# Altium integrated library Resistors.IntLib: 4954 symbols (part 9 of 32)
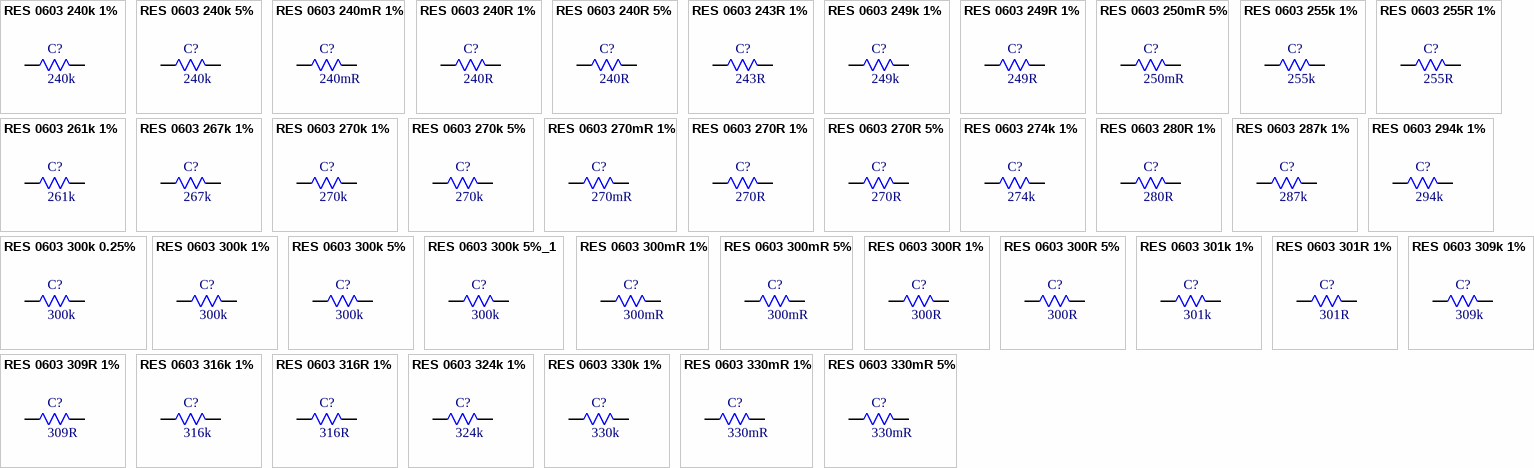
[diagram p131: symbols RES 0603 240k 1% to RES 0603 330mR 5%]

## RES 0603 316R 1%
designator C?, comment 316R
100mW 316R 75V Thick Film Resistor 1% 100ppm/â„ƒ 0603 Chip Resistor - Surface Mount RoHS; Manufacturer: FOJAN; Manufacturer Part Number: FRC0603F3160TS; Supplier: LCSC; Supplier Part Number: C7467419; Resistance: 316R; Tolerance: 1%; Voltage Rating: 75V; Power: 100mW
footprint RES SMD 0603
pins: 1, 2

## RES 0603 324k 1%
designator C?, comment 324k
324kR 1% 100mW 0603 Thick Film Resistor; Manufacturer: FOJAN; Manufacturer Part Number: FRC0603F3243TS; Voltage Rating: 75V; Supplier: LCSC; Supplier Part Number: C5713284; Resistance: 324k; Tolerance: 1%; Power: 100mW
footprint RES SMD 0603
pins: 1, 2

## RES 0603 330k 1%
designator C?, comment 330k
330kR 1% 100mW 0603 Thick Film Resistor; Manufacturer: FOJAN; Manufacturer Part Number: FRC0603F3303TS; Voltage Rating: 75V; Supplier: LCSC; Supplier Part Number: C2907027; Resistance: 330k; Tolerance: 1%; Power: 100mW
footprint RES SMD 0603
pins: 1, 2

## RES 0603 330mR 1%
designator C?, comment 330mR
330mR 1% 100mW 0603 Thick Film Resistor; Manufacturer: FOJAN; Manufacturer Part Number: FRL0603FR330TS; Voltage Rating: 100V; Supplier: LCSC; Supplier Part Number: C2934252; Resistance: 330mR; Tolerance: 1%; Power: 100mW
footprint RES SMD 0603
pins: 1, 2

## RES 0603 330mR 5%
designator C?, comment 330mR
330mR 5% 100mW 0603 Thick Film Resistor; Manufacturer: FOJAN; Manufacturer Part Number: FRL0603JR330TS; Voltage Rating: 100V; Supplier: LCSC; Supplier Part Number: C2998166; Resistance: 330mR; Tolerance: 5%; Power: 100mW
footprint RES SMD 0603
pins: 1, 2

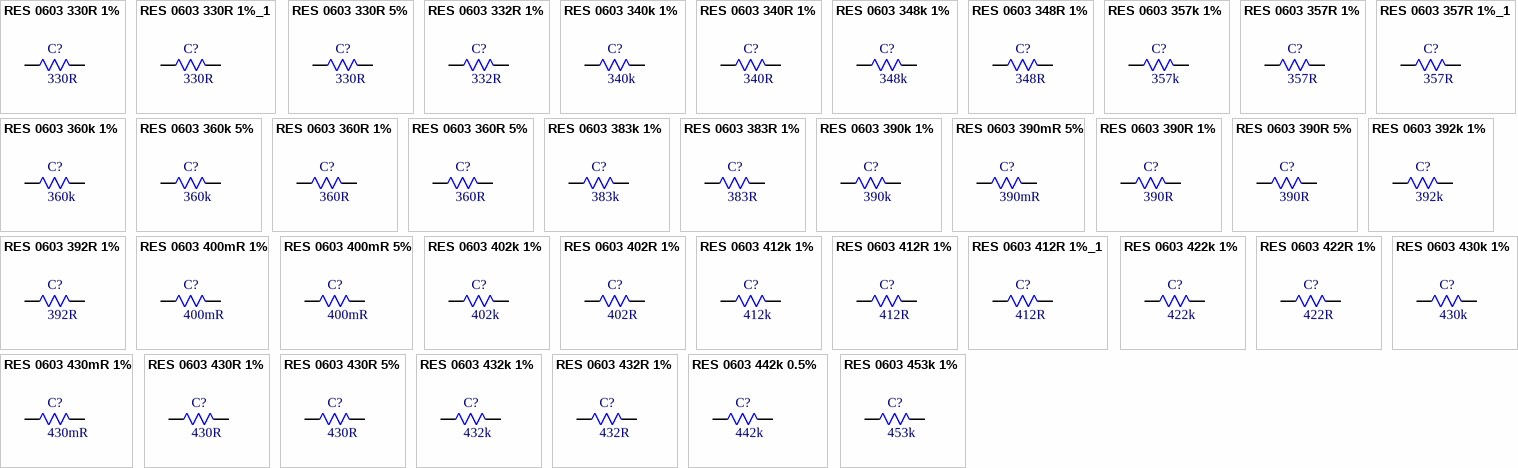
[diagram p32: symbols RES 0603 330R 1% to RES 0603 453k 1%]

## RES 0603 330R 1%
designator C?, comment 330R
330R 1% 100mW 0603 Thick Film Resistor; Manufacturer: FOJAN; Manufacturer Part Number: FRC0603F3300TS; Voltage Rating: 75V; Supplier: LCSC; Supplier Part Number: C2933198; Resistance: 330R; Tolerance: 1%; Power: 100mW
footprint RES SMD 0603
pins: 1, 2

## RES 0603 330R 1%_1
designator C?, comment 330R
100mW 330R Thick Film Resistor 1% 100ppm/â„ƒ 0603 Chip Resistor - Surface Mount RoHS; Manufacturer: FOJAN; Manufacturer Part Number: FRQ0603F3300TS; Supplier: LCSC; Supplier Part Number: C7468636; Resistance: 330R; Tolerance: 1%; Power: 100mW
footprint RES SMD 0603
pins: 1, 2

## RES 0603 330R 5%
designator C?, comment 330R
330R 5% 100mW 0603 Thick Film Resistor; Manufacturer: FOJAN; Manufacturer Part Number: FRC0603J331 TS; Voltage Rating: 75V; Supplier: LCSC; Supplier Part Number: C2907152; Resistance: 330R; Tolerance: 5%; Power: 100mW
footprint RES SMD 0603
pins: 1, 2

## RES 0603 332R 1%
designator C?, comment 332R
332R 100mW 75V Thick Film Resistor 100ppm/â„ƒ 1% 0603 Chip Resistor - Surface Mount RoHS; Manufacturer: FOJAN; Manufacturer Part Number: FRC0603F3320TS; Supplier: LCSC; Supplier Part Number: C19267398; Resistance: 332R; Tolerance: 1%; Voltage Rating: 75V; Power: 100mW
footprint RES SMD 0603
pins: 1, 2

## RES 0603 340k 1%
designator C?, comment 340k
340kR 1% 100mW 0603 Thick Film Resistor; Manufacturer: FOJAN; Manufacturer Part Number: FRC0603F3403TS; Voltage Rating: 75V; Supplier: LCSC; Supplier Part Number: C2933203; Resistance: 340k; Tolerance: 1%; Power: 100mW
footprint RES SMD 0603
pins: 1, 2

## RES 0603 340R 1%
designator C?, comment 340R
340R 1% 100mW 0603 Thick Film Resistor; Manufacturer: FOJAN; Manufacturer Part Number: FRC0603F3400TS; Voltage Rating: 75V; Supplier: LCSC; Supplier Part Number: C5204002; Resistance: 340R; Tolerance: 1%; Power: 100mW
footprint RES SMD 0603
pins: 1, 2

## RES 0603 348k 1%
designator C?, comment 348k
348kR 1% 100mW 0603 Thick Film Resistor; Manufacturer: FOJAN; Manufacturer Part Number: FRC0603F3483TS; Voltage Rating: 75V; Supplier: LCSC; Supplier Part Number: C2930094; Resistance: 348k; Tolerance: 1%; Power: 100mW
footprint RES SMD 0603
pins: 1, 2

## RES 0603 348R 1%
designator C?, comment 348R
348R 100mW 75V Thick Film Resistor 100ppm/â„ƒ 1% 0603 Chip Resistor - Surface Mount RoHS; Manufacturer: FOJAN; Manufacturer Part Number: FRC0603F3480TS; Supplier: LCSC; Supplier Part Number: C22375095; Resistance: 348R; Tolerance: 1%; Voltage Rating: 75V; Power: 100mW
footprint RES SMD 0603
pins: 1, 2

## RES 0603 357k 1%
designator C?, comment 357k
357kR 1% 100mW 0603 Thick Film Resistor; Manufacturer: FOJAN; Manufacturer Part Number: FRC0603F3573TS; Voltage Rating: 75V; Supplier: LCSC; Supplier Part Number: C5713286; Resistance: 357k; Tolerance: 1%; Power: 100mW
footprint RES SMD 0603
pins: 1, 2

## RES 0603 357R 1%
designator C?, comment 357R
357R 1% 100mW 0603 Thick Film Resistor AEC-Q200; Manufacturer: FOJAN; Manufacturer Part Number: FRQ0603F3570TS; Voltage Rating: 75V; Supplier: LCSC; Supplier Part Number: C5713438; Resistance: 357R; Tolerance: 1%; Power: 100mW
footprint RES SMD 0603
pins: 1, 2

## RES 0603 357R 1%_1
designator C?, comment 357R
357R 1% 100mW 0603 Thick Film Resistor; Manufacturer: FOJAN; Manufacturer Part Number: FRC0603F3570TS; Voltage Rating: 75V; Supplier: LCSC; Supplier Part Number: C2933205; Resistance: 357R; Tolerance: 1%; Power: 100mW
footprint RES SMD 0603
pins: 1, 2

## RES 0603 360k 1%
designator C?, comment 360k
360kR 1% 100mW 0603 Thick Film Resistor; Manufacturer: FOJAN; Manufacturer Part Number: FRC0603F3603TS; Voltage Rating: 75V; Supplier: LCSC; Supplier Part Number: C2907029; Resistance: 360k; Tolerance: 1%; Power: 100mW
footprint RES SMD 0603
pins: 1, 2

## RES 0603 360k 5%
designator C?, comment 360k
360kR 5% 100mW 0603 Thick Film Resistor; Manufacturer: FOJAN; Manufacturer Part Number: FRC0603J364TS; Voltage Rating: 75V; Supplier: LCSC; Supplier Part Number: C2930038; Resistance: 360k; Tolerance: 5%; Power: 100mW
footprint RES SMD 0603
pins: 1, 2

## RES 0603 360R 1%
designator C?, comment 360R
360R 1% 100mW 0603 Thick Film Resistor; Manufacturer: FOJAN; Manufacturer Part Number: FRC0603F3600TS; Voltage Rating: 75V; Supplier: LCSC; Supplier Part Number: C2930096; Resistance: 360R; Tolerance: 1%; Power: 100mW
footprint RES SMD 0603
pins: 1, 2

## RES 0603 360R 5%
designator C?, comment 360R
360R 5% 100mW 0603 Thick Film Resistor; Manufacturer: FOJAN; Manufacturer Part Number: FRC0603J361 TS; Voltage Rating: 75V; Supplier: LCSC; Supplier Part Number: C2907155; Resistance: 360R; Tolerance: 5%; Power: 100mW
footprint RES SMD 0603
pins: 1, 2

## RES 0603 383k 1%
designator C?, comment 383k
383kR 1% 100mW 0603 Thick Film Resistor; Manufacturer: FOJAN; Manufacturer Part Number: FRC0603F3833TS; Voltage Rating: 75V; Supplier: LCSC; Supplier Part Number: C2933214; Resistance: 383k; Tolerance: 1%; Power: 100mW
footprint RES SMD 0603
pins: 1, 2

## RES 0603 383R 1%
designator C?, comment 383R
383R 1% 100mW 0603 Thick Film Resistor; Manufacturer: FOJAN; Manufacturer Part Number: FRC0603F3830TS; Voltage Rating: 75V; Supplier: LCSC; Supplier Part Number: C5126195; Resistance: 383R; Tolerance: 1%; Power: 100mW
footprint RES SMD 0603
pins: 1, 2

## RES 0603 390k 1%
designator C?, comment 390k
390kR 1% 100mW 0603 Thick Film Resistor; Manufacturer: FOJAN; Manufacturer Part Number: FRC0603F3903TS; Voltage Rating: 75V; Supplier: LCSC; Supplier Part Number: C2907030; Resistance: 390k; Tolerance: 1%; Power: 100mW
footprint RES SMD 0603
pins: 1, 2

## RES 0603 390mR 5%
designator C?, comment 390mR
390mR 5% 100mW 0603 Thick Film Resistor; Manufacturer: FOJAN; Manufacturer Part Number: FRL0603JR390TS; Voltage Rating: 100V; Supplier: LCSC; Supplier Part Number: C3013354; Resistance: 390mR; Tolerance: 5%; Power: 100mW
footprint RES SMD 0603
pins: 1, 2

## RES 0603 390R 1%
designator C?, comment 390R
390R 1% 100mW 0603 Thick Film Resistor; Manufacturer: FOJAN; Manufacturer Part Number: FRC0603F3900TS; Voltage Rating: 75V; Supplier: LCSC; Supplier Part Number: C2907031; Resistance: 390R; Tolerance: 1%; Power: 100mW
footprint RES SMD 0603
pins: 1, 2

## RES 0603 390R 5%
designator C?, comment 390R
390R 5% 100mW 0603 Thick Film Resistor; Manufacturer: FOJAN; Manufacturer Part Number: FRC0603J391 TS; Voltage Rating: 75V; Supplier: LCSC; Supplier Part Number: C2907159; Resistance: 390R; Tolerance: 5%; Power: 100mW
footprint RES SMD 0603
pins: 1, 2

## RES 0603 392k 1%
designator C?, comment 392k
392kR 100mW 75V Thick Film Resistor 100ppm/â„ƒ 1% 0603 Chip Resistor - Surface Mount RoHS; Manufacturer: FOJAN; Manufacturer Part Number: FRC0603F3923TS; Supplier: LCSC; Supplier Part Number: C22375101; Resistance: 392k; Tolerance: 1%; Voltage Rating: 75V; Power: 100mW
footprint RES SMD 0603
pins: 1, 2

## RES 0603 392R 1%
designator C?, comment 392R
392R 1% 100mW 0603 Thick Film Resistor; Manufacturer: FOJAN; Manufacturer Part Number: FRC0603F3920TS; Voltage Rating: 75V; Supplier: LCSC; Supplier Part Number: C5126126; Resistance: 392R; Tolerance: 1%; Power: 100mW
footprint RES SMD 0603
pins: 1, 2

## RES 0603 400mR 1%
designator C?, comment 400mR
400mR 1% 100mW 0603 Thick Film Resistor; Manufacturer: FOJAN; Manufacturer Part Number: FRL0603FR400TS; Voltage Rating: 100V; Supplier: LCSC; Supplier Part Number: C5126047; Resistance: 400mR; Tolerance: 1%; Power: 100mW
footprint RES SMD 0603
pins: 1, 2

## RES 0603 400mR 5%
designator C?, comment 400mR
400mR 5% 100mW 0603 Thick Film Resistor; Manufacturer: FOJAN; Manufacturer Part Number: FRL0603JR400TS; Voltage Rating: 100V; Supplier: LCSC; Supplier Part Number: C5126106; Resistance: 400mR; Tolerance: 5%; Power: 100mW
footprint RES SMD 0603
pins: 1, 2

## RES 0603 402k 1%
designator C?, comment 402k
402kR 1% 100mW 0603 Thick Film Resistor; Manufacturer: FOJAN; Manufacturer Part Number: FRC0603F4023TS; Voltage Rating: 75V; Supplier: LCSC; Supplier Part Number: C2960796; Resistance: 402k; Tolerance: 1%; Power: 100mW
footprint RES SMD 0603
pins: 1, 2

## RES 0603 402R 1%
designator C?, comment 402R
402R 1% 100mW 0603 Thick Film Resistor; Manufacturer: FOJAN; Manufacturer Part Number: FRC0603F4020TS; Voltage Rating: 75V; Supplier: LCSC; Supplier Part Number: C2930100; Resistance: 402R; Tolerance: 1%; Power: 100mW
footprint RES SMD 0603
pins: 1, 2

## RES 0603 412k 1%
designator C?, comment 412k
412kR 1% 100mW 0603 Thick Film Resistor; Manufacturer: FOJAN; Manufacturer Part Number: FRC0603F4123TS; Voltage Rating: 75V; Supplier: LCSC; Supplier Part Number: C2933219; Resistance: 412k; Tolerance: 1%; Power: 100mW
footprint RES SMD 0603
pins: 1, 2

## RES 0603 412R 1%
designator C?, comment 412R
412R 1% 100mW 0603 Thick Film Resistor; Manufacturer: FOJAN; Manufacturer Part Number: FRC0603F4120TS; Voltage Rating: 75V; Supplier: LCSC; Supplier Part Number: C5126258; Resistance: 412R; Tolerance: 1%; Power: 100mW
footprint RES SMD 0603
pins: 1, 2

## RES 0603 412R 1%_1
designator C?, comment 412R
100mW 412R 75V Thick Film Resistor 1% 100ppm/â„ƒ 0603 Chip Resistor - Surface Mount RoHS; Manufacturer: FOJAN; Manufacturer Part Number: FRQ0603F4120TS; Supplier: LCSC; Supplier Part Number: C7468685; Resistance: 412R; Tolerance: 1%; Voltage Rating: 75V; Power: 100mW
footprint RES SMD 0603
pins: 1, 2

## RES 0603 422k 1%
designator C?, comment 422k
422kR 1% 100mW 0603 Thick Film Resistor; Manufacturer: FOJAN; Manufacturer Part Number: FRC0603F4223TS; Voltage Rating: 75V; Supplier: LCSC; Supplier Part Number: C2998137; Resistance: 422k; Tolerance: 1%; Power: 100mW
footprint RES SMD 0603
pins: 1, 2

## RES 0603 422R 1%
designator C?, comment 422R
422R 1% 100mW 0603 Thick Film Resistor; Manufacturer: FOJAN; Manufacturer Part Number: FRC0603F4220TS; Voltage Rating: 75V; Supplier: LCSC; Supplier Part Number: C5204003; Resistance: 422R; Tolerance: 1%; Power: 100mW
footprint RES SMD 0603
pins: 1, 2

## RES 0603 430k 1%
designator C?, comment 430k
430kR 1% 100mW 0603 Thick Film Resistor; Manufacturer: FOJAN; Manufacturer Part Number: FRC0603F4303TS; Voltage Rating: 75V; Supplier: LCSC; Supplier Part Number: C2907036; Resistance: 430k; Tolerance: 1%; Power: 100mW
footprint RES SMD 0603
pins: 1, 2

## RES 0603 430mR 1%
designator C?, comment 430mR
430mR 1% 100mW 0603 Thick Film Resistor; Manufacturer: FOJAN; Manufacturer Part Number: FRL0603FR430TS; Voltage Rating: 100V; Supplier: LCSC; Supplier Part Number: C3013348; Resistance: 430mR; Tolerance: 1%; Power: 100mW
footprint RES SMD 0603
pins: 1, 2

## RES 0603 430R 1%
designator C?, comment 430R
430R 1% 100mW 0603 Thick Film Resistor; Manufacturer: FOJAN; Manufacturer Part Number: FRC0603F4300TS; Voltage Rating: 75V; Supplier: LCSC; Supplier Part Number: C2907037; Resistance: 430R; Tolerance: 1%; Power: 100mW
footprint RES SMD 0603
pins: 1, 2

## RES 0603 430R 5%
designator C?, comment 430R
430R 5% 100mW 0603 Thick Film Resistor; Manufacturer: FOJAN; Manufacturer Part Number: FRC0603J431 TS; Voltage Rating: 75V; Supplier: LCSC; Supplier Part Number: C2907169; Resistance: 430R; Tolerance: 5%; Power: 100mW
footprint RES SMD 0603
pins: 1, 2

## RES 0603 432k 1%
designator C?, comment 432k
432kR 1% 100mW 0603 Thick Film Resistor; Manufacturer: FOJAN; Manufacturer Part Number: FRC0603F4323TS; Voltage Rating: 75V; Supplier: LCSC; Supplier Part Number: C2933222; Resistance: 432k; Tolerance: 1%; Power: 100mW
footprint RES SMD 0603
pins: 1, 2

## RES 0603 432R 1%
designator C?, comment 432R
432R 1% 100mW 0603 Thick Film Resistor; Manufacturer: FOJAN; Manufacturer Part Number: FRC0603F4320TS; Voltage Rating: 75V; Supplier: LCSC; Supplier Part Number: C2933220; Resistance: 432R; Tolerance: 1%; Power: 100mW
footprint RES SMD 0603
pins: 1, 2

## RES 0603 442k 0.5%
designator C?, comment 442k
442kR 0.5% 100mW 0603 Thick Film Resistor; Manufacturer: FOJAN; Manufacturer Part Number: FRH0603D4423TS; Voltage Rating: 75V; Supplier: LCSC; Supplier Part Number: C3013343; Resistance: 442k; Tolerance: 0.5%; Power: 100mW
footprint RES SMD 0603
pins: 1, 2

## RES 0603 453k 1%
designator C?, comment 453k
453kR 1% 100mW 0603 Thick Film Resistor; Manufacturer: FOJAN; Manufacturer Part Number: FRC0603F4533TS; Voltage Rating: 75V; Supplier: LCSC; Supplier Part Number: C3013202; Resistance: 453k; Tolerance: 1%; Power: 100mW
footprint RES SMD 0603
pins: 1, 2

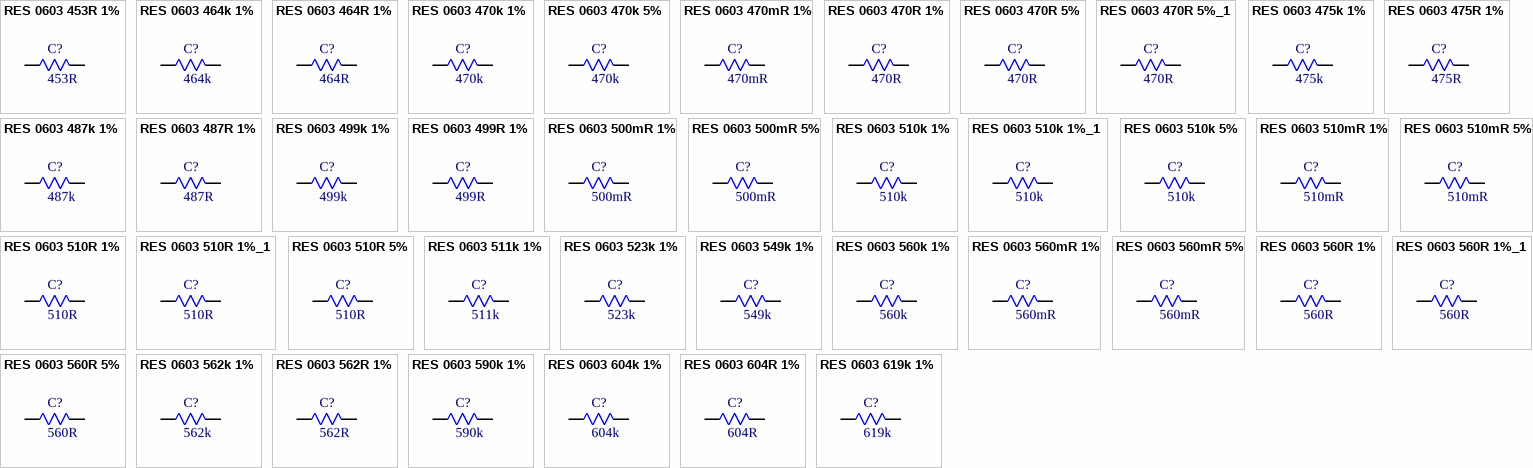
[diagram p33: symbols RES 0603 453R 1% to RES 0603 619k 1%]

## RES 0603 453R 1%
designator C?, comment 453R
453R 1% 100mW 0603 Thick Film Resistor; Manufacturer: FOJAN; Manufacturer Part Number: FRC0603F4530TS; Voltage Rating: 75V; Supplier: LCSC; Supplier Part Number: C2930104; Resistance: 453R; Tolerance: 1%; Power: 100mW
footprint RES SMD 0603
pins: 1, 2

## RES 0603 464k 1%
designator C?, comment 464k
100mW 464kR 75V Thick Film Resistor 100ppm/â„ƒ 1% 0603 Chip Resistor - Surface Mount RoHS; Manufacturer: FOJAN; Manufacturer Part Number: FRC0603F4643TS; Supplier: LCSC; Supplier Part Number: C19267400; Resistance: 464k; Tolerance: 1%; Voltage Rating: 75V; Power: 100mW
footprint RES SMD 0603
pins: 1, 2

## RES 0603 464R 1%
designator C?, comment 464R
464R 1% 100mW 0603 Thick Film Resistor; Manufacturer: FOJAN; Manufacturer Part Number: FRC0603F4640TS; Voltage Rating: 75V; Supplier: LCSC; Supplier Part Number: C5159701; Resistance: 464R; Tolerance: 1%; Power: 100mW
footprint RES SMD 0603
pins: 1, 2

## RES 0603 470k 1%
designator C?, comment 470k
470kR 1% 100mW 0603 Thick Film Resistor; Manufacturer: FOJAN; Manufacturer Part Number: FRC0603F4703TS; Voltage Rating: 75V; Supplier: LCSC; Supplier Part Number: C2907040; Resistance: 470k; Tolerance: 1%; Power: 100mW
footprint RES SMD 0603
pins: 1, 2

## RES 0603 470k 5%
designator C?, comment 470k
470kR 5% 100mW 0603 Thick Film Resistor; Manufacturer: FOJAN; Manufacturer Part Number: FRC0603J474 TS; Voltage Rating: 75V; Supplier: LCSC; Supplier Part Number: C2907171; Resistance: 470k; Tolerance: 5%; Power: 100mW
footprint RES SMD 0603
pins: 1, 2

## RES 0603 470mR 1%
designator C?, comment 470mR
470mR 1% 100mW 0603 Thick Film Resistor; Manufacturer: FOJAN; Manufacturer Part Number: FRL0603FR470TS; Voltage Rating: 100V; Supplier: LCSC; Supplier Part Number: C3013349; Resistance: 470mR; Tolerance: 1%; Power: 100mW
footprint RES SMD 0603
pins: 1, 2

## RES 0603 470R 1%
designator C?, comment 470R
470R 1% 100mW 0603 Thick Film Resistor; Manufacturer: FOJAN; Manufacturer Part Number: FRC0603F4700TS; Voltage Rating: 75V; Supplier: LCSC; Supplier Part Number: C2907041; Resistance: 470R; Tolerance: 1%; Power: 100mW
footprint RES SMD 0603
pins: 1, 2

## RES 0603 470R 5%
designator C?, comment 470R
470R 5% 100mW 0603 Thick Film Resistor; Manufacturer: FOJAN; Manufacturer Part Number: FRC0603J471 TS; Voltage Rating: 75V; Supplier: LCSC; Supplier Part Number: C2907172; Resistance: 470R; Tolerance: 5%; Power: 100mW
footprint RES SMD 0603
pins: 1, 2

## RES 0603 470R 5%_1
designator C?, comment 470R
100mW 470R 75V Thick Film Resistor 100ppm/â„ƒ 5% 0603 Chip Resistor - Surface Mount RoHS; Manufacturer: FOJAN; Manufacturer Part Number: FRR0603J471 TS; Supplier: LCSC; Supplier Part Number: C49196807; Resistance: 470R; Tolerance: 5%; Voltage Rating: 75V; Power: 100mW
footprint RES SMD 0603
pins: 1, 2

## RES 0603 475k 1%
designator C?, comment 475k
475kR 1% 100mW 0603 Thick Film Resistor; Manufacturer: FOJAN; Manufacturer Part Number: FRC0603F4753TS; Voltage Rating: 75V; Supplier: LCSC; Supplier Part Number: C2930105; Resistance: 475k; Tolerance: 1%; Power: 100mW
footprint RES SMD 0603
pins: 1, 2

## RES 0603 475R 1%
designator C?, comment 475R
475R 1% 100mW 0603 Thick Film Resistor; Manufacturer: FOJAN; Manufacturer Part Number: FRC0603F4750TS; Voltage Rating: 75V; Supplier: LCSC; Supplier Part Number: C2930106; Resistance: 475R; Tolerance: 1%; Power: 100mW
footprint RES SMD 0603
pins: 1, 2

## RES 0603 487k 1%
designator C?, comment 487k
487kR 1% 100mW 0603 Thick Film Resistor; Manufacturer: FOJAN; Manufacturer Part Number: FRC0603F4873TS; Voltage Rating: 75V; Supplier: LCSC; Supplier Part Number: C2930107; Resistance: 487k; Tolerance: 1%; Power: 100mW
footprint RES SMD 0603
pins: 1, 2

## RES 0603 487R 1%
designator C?, comment 487R
487R 1% 100mW 0603 Thick Film Resistor; Manufacturer: FOJAN; Manufacturer Part Number: FRC0603F4870TS; Voltage Rating: 75V; Supplier: LCSC; Supplier Part Number: C2930108; Resistance: 487R; Tolerance: 1%; Power: 100mW
footprint RES SMD 0603
pins: 1, 2

## RES 0603 499k 1%
designator C?, comment 499k
499kR 1% 100mW 0603 Thick Film Resistor; Manufacturer: FOJAN; Manufacturer Part Number: FRC0603F4993TS; Voltage Rating: 75V; Supplier: LCSC; Supplier Part Number: C2933229; Resistance: 499k; Tolerance: 1%; Power: 100mW
footprint RES SMD 0603
pins: 1, 2

## RES 0603 499R 1%
designator C?, comment 499R
499R 1% 100mW 0603 Thick Film Resistor; Manufacturer: FOJAN; Manufacturer Part Number: FRC0603F4990TS; Voltage Rating: 75V; Supplier: LCSC; Supplier Part Number: C2933227; Resistance: 499R; Tolerance: 1%; Power: 100mW
footprint RES SMD 0603
pins: 1, 2

## RES 0603 500mR 1%
designator C?, comment 500mR
500mR 1% 100mW 0603 Thick Film Resistor; Manufacturer: FOJAN; Manufacturer Part Number: FRL0603FR500TS; Voltage Rating: 100V; Supplier: LCSC; Supplier Part Number: C2934253; Resistance: 500mR; Tolerance: 1%; Power: 100mW
footprint RES SMD 0603
pins: 1, 2

## RES 0603 500mR 5%
designator C?, comment 500mR
500mR 5% 100mW 0603 Thick Film Resistor; Manufacturer: FOJAN; Manufacturer Part Number: FRL0603JR500TS; Voltage Rating: 100V; Supplier: LCSC; Supplier Part Number: C2930046; Resistance: 500mR; Tolerance: 5%; Power: 100mW
footprint RES SMD 0603
pins: 1, 2

## RES 0603 510k 1%
designator C?, comment 510k
510kR 1% 100mW 0603 Thick Film Resistor; Manufacturer: FOJAN; Manufacturer Part Number: FRC0603F5103TS; Voltage Rating: 75V; Supplier: LCSC; Supplier Part Number: C2907047; Resistance: 510k; Tolerance: 1%; Power: 100mW
footprint RES SMD 0603
pins: 1, 2

## RES 0603 510k 1%_1
designator C?, comment 510k
100mW 510kR 75V Thick Film Resistor 1% 0603 Chip Resistor - Surface Mount RoHS; Manufacturer: FOJAN; Manufacturer Part Number: FRR0603F5103TS; Supplier: LCSC; Supplier Part Number: C52033510; Resistance: 510k; Tolerance: 1%; Voltage Rating: 75V; Power: 100mW
footprint RES SMD 0603
pins: 1, 2

## RES 0603 510k 5%
designator C?, comment 510k
510kR 5% 100mW 0603 Thick Film Resistor; Manufacturer: FOJAN; Manufacturer Part Number: FRC0603J514 TS; Voltage Rating: 75V; Supplier: LCSC; Supplier Part Number: C2907178; Resistance: 510k; Tolerance: 5%; Power: 100mW
footprint RES SMD 0603
pins: 1, 2

## RES 0603 510mR 1%
designator C?, comment 510mR
510mR 1% 100mW 0603 Thick Film Resistor; Manufacturer: FOJAN; Manufacturer Part Number: FRL0603FR510TS; Voltage Rating: 100V; Supplier: LCSC; Supplier Part Number: C3013350; Resistance: 510mR; Tolerance: 1%; Power: 100mW
footprint RES SMD 0603
pins: 1, 2

## RES 0603 510mR 5%
designator C?, comment 510mR
510mR 5% 100mW 0603 Thick Film Resistor; Manufacturer: FOJAN; Manufacturer Part Number: FRL0603JR510TS; Voltage Rating: 100V; Supplier: LCSC; Supplier Part Number: C2934257; Resistance: 510mR; Tolerance: 5%; Power: 100mW
footprint RES SMD 0603
pins: 1, 2

## RES 0603 510R 1%
designator C?, comment 510R
510R 1% 100mW 0603 Thick Film Resistor; Manufacturer: FOJAN; Manufacturer Part Number: FRC0603F5100TS; Voltage Rating: 75V; Supplier: LCSC; Supplier Part Number: C2907048; Resistance: 510R; Tolerance: 1%; Power: 100mW
footprint RES SMD 0603
pins: 1, 2

## RES 0603 510R 1%_1
designator C?, comment 510R
100mW 510R 75V Thick Film Resistor 1% 100ppm/â„ƒ 0603 Chip Resistor - Surface Mount RoHS; Manufacturer: FOJAN; Manufacturer Part Number: FRQ0603F5100TS; Supplier: LCSC; Supplier Part Number: C7468460; Resistance: 510R; Tolerance: 1%; Voltage Rating: 75V; Power: 100mW
footprint RES SMD 0603
pins: 1, 2

## RES 0603 510R 5%
designator C?, comment 510R
510R 5% 100mW 0603 Thick Film Resistor; Manufacturer: FOJAN; Manufacturer Part Number: FRC0603J511 TS; Voltage Rating: 75V; Supplier: LCSC; Supplier Part Number: C2907179; Resistance: 510R; Tolerance: 5%; Power: 100mW
footprint RES SMD 0603
pins: 1, 2

## RES 0603 511k 1%
designator C?, comment 511k
511kR 1% 100mW 0603 Thick Film Resistor; Manufacturer: FOJAN; Manufacturer Part Number: FRC0603F5113TS; Voltage Rating: 75V; Supplier: LCSC; Supplier Part Number: C2930114; Resistance: 511k; Tolerance: 1%; Power: 100mW
footprint RES SMD 0603
pins: 1, 2

## RES 0603 523k 1%
designator C?, comment 523k
523kR 1% 100mW 0603 Thick Film Resistor; Manufacturer: FOJAN; Manufacturer Part Number: FRC0603F5233TS; Voltage Rating: 75V; Supplier: LCSC; Supplier Part Number: C5126197; Resistance: 523k; Tolerance: 1%; Power: 100mW
footprint RES SMD 0603
pins: 1, 2

## RES 0603 549k 1%
designator C?, comment 549k
549kR 1% 100mW 0603 Thick Film Resistor; Manufacturer: FOJAN; Manufacturer Part Number: FRC0603F5493TS; Voltage Rating: 75V; Supplier: LCSC; Supplier Part Number: C2933236; Resistance: 549k; Tolerance: 1%; Power: 100mW
footprint RES SMD 0603
pins: 1, 2

## RES 0603 560k 1%
designator C?, comment 560k
560kR 1% 100mW 0603 Thick Film Resistor; Manufacturer: FOJAN; Manufacturer Part Number: FRC0603F5603TS; Voltage Rating: 75V; Supplier: LCSC; Supplier Part Number: C2907051; Resistance: 560k; Tolerance: 1%; Power: 100mW
footprint RES SMD 0603
pins: 1, 2

## RES 0603 560mR 1%
designator C?, comment 560mR
560mR 1% 100mW 0603 Thick Film Resistor; Manufacturer: FOJAN; Manufacturer Part Number: FRL0603FR560TS; Voltage Rating: 100V; Supplier: LCSC; Supplier Part Number: C2934254; Resistance: 560mR; Tolerance: 1%; Power: 100mW
footprint RES SMD 0603
pins: 1, 2

## RES 0603 560mR 5%
designator C?, comment 560mR
560mR 5% 100mW 0603 Thick Film Resistor; Manufacturer: FOJAN; Manufacturer Part Number: FRL0603JR560TS; Voltage Rating: 100V; Supplier: LCSC; Supplier Part Number: C3013355; Resistance: 560mR; Tolerance: 5%; Power: 100mW
footprint RES SMD 0603
pins: 1, 2

## RES 0603 560R 1%
designator C?, comment 560R
560R 1% 100mW 0603 Thick Film Resistor; Manufacturer: FOJAN; Manufacturer Part Number: FRC0603F5600TS; Voltage Rating: 75V; Supplier: LCSC; Supplier Part Number: C2907052; Resistance: 560R; Tolerance: 1%; Power: 100mW
footprint RES SMD 0603
pins: 1, 2

## RES 0603 560R 1%_1
designator C?, comment 560R
200mW 560R 75V Thick Film Resistor 200ppm/â„ƒ 1% 0603 Chip Resistor - Surface Mount RoHS; Manufacturer: FOJAN; Manufacturer Part Number: FRP0603F5600TS; Supplier: LCSC; Supplier Part Number: C49196868; Resistance: 560R; Tolerance: 1%; Voltage Rating: 75V; Power: 200mW
footprint RES SMD 0603
pins: 1, 2

## RES 0603 560R 5%
designator C?, comment 560R
560R 5% 100mW 0603 Thick Film Resistor; Manufacturer: FOJAN; Manufacturer Part Number: FRC0603J561 TS; Voltage Rating: 75V; Supplier: LCSC; Supplier Part Number: C2907183; Resistance: 560R; Tolerance: 5%; Power: 100mW
footprint RES SMD 0603
pins: 1, 2

## RES 0603 562k 1%
designator C?, comment 562k
562kR 1% 100mW 0603 Thick Film Resistor; Manufacturer: FOJAN; Manufacturer Part Number: FRC0603F5623TS; Voltage Rating: 75V; Supplier: LCSC; Supplier Part Number: C2933238; Resistance: 562k; Tolerance: 1%; Power: 100mW
footprint RES SMD 0603
pins: 1, 2

## RES 0603 562R 1%
designator C?, comment 562R
562R 1% 100mW 0603 Thick Film Resistor; Manufacturer: FOJAN; Manufacturer Part Number: FRC0603F5620TS; Voltage Rating: 75V; Supplier: LCSC; Supplier Part Number: C2998130; Resistance: 562R; Tolerance: 1%; Power: 100mW
footprint RES SMD 0603
pins: 1, 2

## RES 0603 590k 1%
designator C?, comment 590k
590kR 1% 100mW 0603 Thick Film Resistor; Manufacturer: FOJAN; Manufacturer Part Number: FRC0603F5903TS; Voltage Rating: 75V; Supplier: LCSC; Supplier Part Number: C5126105; Resistance: 590k; Tolerance: 1%; Power: 100mW
footprint RES SMD 0603
pins: 1, 2

## RES 0603 604k 1%
designator C?, comment 604k
604kR 1% 100mW 0603 Thick Film Resistor; Manufacturer: FOJAN; Manufacturer Part Number: FRC0603F6043TS; Voltage Rating: 75V; Supplier: LCSC; Supplier Part Number: C2933246; Resistance: 604k; Tolerance: 1%; Power: 100mW
footprint RES SMD 0603
pins: 1, 2

## RES 0603 604R 1%
designator C?, comment 604R
604R 1% 100mW 0603 Thick Film Resistor; Manufacturer: FOJAN; Manufacturer Part Number: FRC0603F6040TS; Voltage Rating: 75V; Supplier: LCSC; Supplier Part Number: C2930123; Resistance: 604R; Tolerance: 1%; Power: 100mW
footprint RES SMD 0603
pins: 1, 2

## RES 0603 619k 1%
designator C?, comment 619k
619kR 1% 100mW 0603 Thick Film Resistor; Manufacturer: FOJAN; Manufacturer Part Number: FRC0603F6193TS; Voltage Rating: 75V; Supplier: LCSC; Supplier Part Number: C5713292; Resistance: 619k; Tolerance: 1%; Power: 100mW
footprint RES SMD 0603
pins: 1, 2

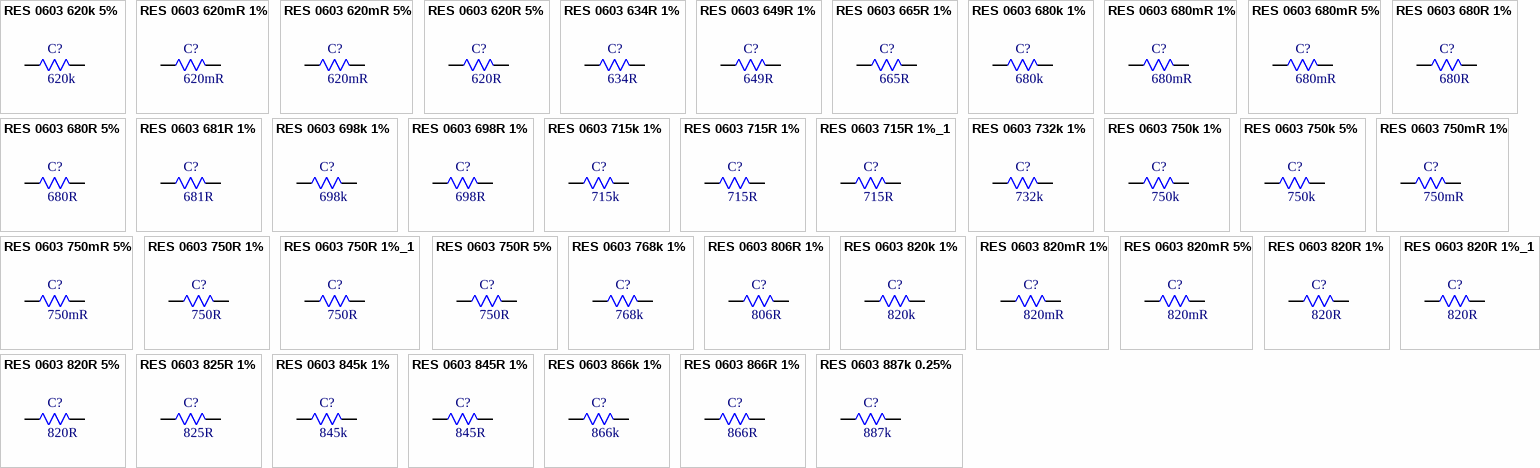
[diagram p34: symbols RES 0603 620k 5% to RES 0603 887k 0.25%]

## RES 0603 620k 5%
designator C?, comment 620k
620kR 5% 100mW 0603 Thick Film Resistor; Manufacturer: FOJAN; Manufacturer Part Number: FRC0603J624TS; Voltage Rating: 75V; Supplier: LCSC; Supplier Part Number: C2930043; Resistance: 620k; Tolerance: 5%; Power: 100mW
footprint RES SMD 0603
pins: 1, 2

## RES 0603 620mR 1%
designator C?, comment 620mR
620mR 1% 100mW 0603 Thick Film Resistor; Manufacturer: FOJAN; Manufacturer Part Number: FRL0603FR620TS; Voltage Rating: 100V; Supplier: LCSC; Supplier Part Number: C5126048; Resistance: 620mR; Tolerance: 1%; Power: 100mW
footprint RES SMD 0603
pins: 1, 2

## RES 0603 620mR 5%
designator C?, comment 620mR
620mR 5% 100mW 0603 Thick Film Resistor; Manufacturer: FOJAN; Manufacturer Part Number: FRL0603JR620TS; Voltage Rating: 100V; Supplier: LCSC; Supplier Part Number: C5713391; Resistance: 620mR; Tolerance: 5%; Power: 100mW
footprint RES SMD 0603
pins: 1, 2

## RES 0603 620R 5%
designator C?, comment 620R
620R 5% 100mW 0603 Thick Film Resistor; Manufacturer: FOJAN; Manufacturer Part Number: FRC0603J621 TS; Voltage Rating: 75V; Supplier: LCSC; Supplier Part Number: C2907191; Resistance: 620R; Tolerance: 5%; Power: 100mW
footprint RES SMD 0603
pins: 1, 2

## RES 0603 634R 1%
designator C?, comment 634R
634R 1% 100mW 0603 Thick Film Resistor; Manufacturer: FOJAN; Manufacturer Part Number: FRC0603F6340TS; Voltage Rating: 75V; Supplier: LCSC; Supplier Part Number: C2998142; Resistance: 634R; Tolerance: 1%; Power: 100mW
footprint RES SMD 0603
pins: 1, 2

## RES 0603 649R 1%
designator C?, comment 649R
649R 1% 100mW 0603 Thick Film Resistor; Manufacturer: FOJAN; Manufacturer Part Number: FRC0603F6490TS; Voltage Rating: 75V; Supplier: LCSC; Supplier Part Number: C2930124; Resistance: 649R; Tolerance: 1%; Power: 100mW
footprint RES SMD 0603
pins: 1, 2

## RES 0603 665R 1%
designator C?, comment 665R
665R 1% 100mW 0603 Thick Film Resistor; Manufacturer: FOJAN; Manufacturer Part Number: FRC0603F6650TS; Voltage Rating: 75V; Supplier: LCSC; Supplier Part Number: C5204006; Resistance: 665R; Tolerance: 1%; Power: 100mW
footprint RES SMD 0603
pins: 1, 2

## RES 0603 680k 1%
designator C?, comment 680k
680kR 1% 100mW 0603 Thick Film Resistor; Manufacturer: FOJAN; Manufacturer Part Number: FRC0603F6803TS; Voltage Rating: 75V; Supplier: LCSC; Supplier Part Number: C2907061; Resistance: 680k; Tolerance: 1%; Power: 100mW
footprint RES SMD 0603
pins: 1, 2

## RES 0603 680mR 1%
designator C?, comment 680mR
680mR 1% 100mW 0603 Thick Film Resistor; Manufacturer: FOJAN; Manufacturer Part Number: FRL0603FR680TS; Voltage Rating: 100V; Supplier: LCSC; Supplier Part Number: C5126049; Resistance: 680mR; Tolerance: 1%; Power: 100mW
footprint RES SMD 0603
pins: 1, 2

## RES 0603 680mR 5%
designator C?, comment 680mR
680mR 5% 100mW 0603 Thick Film Resistor; Manufacturer: FOJAN; Manufacturer Part Number: FRL0603JR680TS; Voltage Rating: 100V; Supplier: LCSC; Supplier Part Number: C5126107; Resistance: 680mR; Tolerance: 5%; Power: 100mW
footprint RES SMD 0603
pins: 1, 2

## RES 0603 680R 1%
designator C?, comment 680R
680R 1% 100mW 0603 Thick Film Resistor; Manufacturer: FOJAN; Manufacturer Part Number: FRC0603F6800TS; Voltage Rating: 75V; Supplier: LCSC; Supplier Part Number: C2907062; Resistance: 680R; Tolerance: 1%; Power: 100mW
footprint RES SMD 0603
pins: 1, 2

## RES 0603 680R 5%
designator C?, comment 680R
680R 5% 100mW 0603 Thick Film Resistor; Manufacturer: FOJAN; Manufacturer Part Number: FRC0603J681 TS; Voltage Rating: 75V; Supplier: LCSC; Supplier Part Number: C2907195; Resistance: 680R; Tolerance: 5%; Power: 100mW
footprint RES SMD 0603
pins: 1, 2

## RES 0603 681R 1%
designator C?, comment 681R
681R 1% 100mW 0603 Thick Film Resistor; Manufacturer: FOJAN; Manufacturer Part Number: FRC0603F6810TS; Voltage Rating: 75V; Supplier: LCSC; Supplier Part Number: C5126127; Resistance: 681R; Tolerance: 1%; Power: 100mW
footprint RES SMD 0603
pins: 1, 2

## RES 0603 698k 1%
designator C?, comment 698k
698kR 1% 100mW 0603 Thick Film Resistor; Manufacturer: FOJAN; Manufacturer Part Number: FRC0603F6983TS; Voltage Rating: 75V; Supplier: LCSC; Supplier Part Number: C5126055; Resistance: 698k; Tolerance: 1%; Power: 100mW
footprint RES SMD 0603
pins: 1, 2

## RES 0603 698R 1%
designator C?, comment 698R
698R 100mW 75V Thick Film Resistor 1% 100ppm/â„ƒ 0603 Chip Resistor - Surface Mount RoHS; Manufacturer: FOJAN; Manufacturer Part Number: FRC0603F6980TS; Supplier: LCSC; Supplier Part Number: C7467401; Resistance: 698R; Tolerance: 1%; Voltage Rating: 75V; Power: 100mW
footprint RES SMD 0603
pins: 1, 2

## RES 0603 715k 1%
designator C?, comment 715k
715kR 100mW 75V Thick Film Resistor 100ppm/â„ƒ 1% 0603 Chip Resistor - Surface Mount RoHS; Manufacturer: FOJAN; Manufacturer Part Number: FRC0603F7153TS; Supplier: LCSC; Supplier Part Number: C19267401; Resistance: 715k; Tolerance: 1%; Voltage Rating: 75V; Power: 100mW
footprint RES SMD 0603
pins: 1, 2

## RES 0603 715R 1%
designator C?, comment 715R
715R 1% 100mW 0603 Thick Film Resistor AEC-Q200; Manufacturer: FOJAN; Manufacturer Part Number: FRQ0603F7150TS; Voltage Rating: 75V; Supplier: LCSC; Supplier Part Number: C5713442; Resistance: 715R; Tolerance: 1%; Power: 100mW
footprint RES SMD 0603
pins: 1, 2

## RES 0603 715R 1%_1
designator C?, comment 715R
715R 1% 100mW 0603 Thick Film Resistor; Manufacturer: FOJAN; Manufacturer Part Number: FRC0603F7150TS; Voltage Rating: 75V; Supplier: LCSC; Supplier Part Number: C2998136; Resistance: 715R; Tolerance: 1%; Power: 100mW
footprint RES SMD 0603
pins: 1, 2

## RES 0603 732k 1%
designator C?, comment 732k
732kR 1% 100mW 0603 Thick Film Resistor; Manufacturer: FOJAN; Manufacturer Part Number: FRC0603F7323TS; Voltage Rating: 75V; Supplier: LCSC; Supplier Part Number: C5159703; Resistance: 732k; Tolerance: 1%; Power: 100mW
footprint RES SMD 0603
pins: 1, 2

## RES 0603 750k 1%
designator C?, comment 750k
750kR 1% 100mW 0603 Thick Film Resistor; Manufacturer: FOJAN; Manufacturer Part Number: FRC0603F7503TS; Voltage Rating: 75V; Supplier: LCSC; Supplier Part Number: C2907065; Resistance: 750k; Tolerance: 1%; Power: 100mW
footprint RES SMD 0603
pins: 1, 2

## RES 0603 750k 5%
designator C?, comment 750k
750kR 5% 100mW 0603 Thick Film Resistor; Manufacturer: FOJAN; Manufacturer Part Number: FRC0603J754 TS; Voltage Rating: 75V; Supplier: LCSC; Supplier Part Number: C2907201; Resistance: 750k; Tolerance: 5%; Power: 100mW
footprint RES SMD 0603
pins: 1, 2

## RES 0603 750mR 1%
designator C?, comment 750mR
750mR 1% 100mW 0603 Thick Film Resistor; Manufacturer: FOJAN; Manufacturer Part Number: FRL0603FR750TS; Voltage Rating: 100V; Supplier: LCSC; Supplier Part Number: C5126009; Resistance: 750mR; Tolerance: 1%; Power: 100mW
footprint RES SMD 0603
pins: 1, 2

## RES 0603 750mR 5%
designator C?, comment 750mR
750mR 5% 100mW 0603 Thick Film Resistor; Manufacturer: FOJAN; Manufacturer Part Number: FRL0603JR750TS; Voltage Rating: 100V; Supplier: LCSC; Supplier Part Number: C2998170; Resistance: 750mR; Tolerance: 5%; Power: 100mW
footprint RES SMD 0603
pins: 1, 2

## RES 0603 750R 1%
designator C?, comment 750R
750R 1% 100mW 0603 Thick Film Resistor; Manufacturer: FOJAN; Manufacturer Part Number: FRC0603F7500TS; Voltage Rating: 75V; Supplier: LCSC; Supplier Part Number: C2907066; Resistance: 750R; Tolerance: 1%; Power: 100mW
footprint RES SMD 0603
pins: 1, 2

## RES 0603 750R 1%_1
designator C?, comment 750R
100mW 750R 75V Thick Film Resistor 1% 100ppm/â„ƒ 0603 Chip Resistor - Surface Mount RoHS; Manufacturer: FOJAN; Manufacturer Part Number: FRQ0603F7500TS; Supplier: LCSC; Supplier Part Number: C7468484; Resistance: 750R; Tolerance: 1%; Voltage Rating: 75V; Power: 100mW
footprint RES SMD 0603
pins: 1, 2

## RES 0603 750R 5%
designator C?, comment 750R
750R 5% 100mW 0603 Thick Film Resistor; Manufacturer: FOJAN; Manufacturer Part Number: FRC0603J751 TS; Voltage Rating: 75V; Supplier: LCSC; Supplier Part Number: C2907202; Resistance: 750R; Tolerance: 5%; Power: 100mW
footprint RES SMD 0603
pins: 1, 2

## RES 0603 768k 1%
designator C?, comment 768k
768kR 1% 100mW 0603 Thick Film Resistor; Manufacturer: FOJAN; Manufacturer Part Number: FRC0603F7683TS; Voltage Rating: 75V; Supplier: LCSC; Supplier Part Number: C2933258; Resistance: 768k; Tolerance: 1%; Power: 100mW
footprint RES SMD 0603
pins: 1, 2

## RES 0603 806R 1%
designator C?, comment 806R
806R 1% 100mW 0603 Thick Film Resistor; Manufacturer: FOJAN; Manufacturer Part Number: FRC0603F8060TS; Voltage Rating: 75V; Supplier: LCSC; Supplier Part Number: C5126211; Resistance: 806R; Tolerance: 1%; Power: 100mW
footprint RES SMD 0603
pins: 1, 2

## RES 0603 820k 1%
designator C?, comment 820k
820kR 1% 100mW 0603 Thick Film Resistor; Manufacturer: FOJAN; Manufacturer Part Number: FRC0603F8203TS; Voltage Rating: 75V; Supplier: LCSC; Supplier Part Number: C2907070; Resistance: 820k; Tolerance: 1%; Power: 100mW
footprint RES SMD 0603
pins: 1, 2

## RES 0603 820mR 1%
designator C?, comment 820mR
820mR 1% 100mW 0603 Thick Film Resistor; Manufacturer: FOJAN; Manufacturer Part Number: FRL0603FR820TS; Voltage Rating: 100V; Supplier: LCSC; Supplier Part Number: C3013351; Resistance: 820mR; Tolerance: 1%; Power: 100mW
footprint RES SMD 0603
pins: 1, 2

## RES 0603 820mR 5%
designator C?, comment 820mR
820mR 5% 100mW 0603 Thick Film Resistor; Manufacturer: FOJAN; Manufacturer Part Number: FRL0603JR820TS; Voltage Rating: 100V; Supplier: LCSC; Supplier Part Number: C5713392; Resistance: 820mR; Tolerance: 5%; Power: 100mW
footprint RES SMD 0603
pins: 1, 2

## RES 0603 820R 1%
designator C?, comment 820R
820R 1% 100mW 0603 Thick Film Resistor; Manufacturer: FOJAN; Manufacturer Part Number: FRC0603F8200TS; Voltage Rating: 75V; Supplier: LCSC; Supplier Part Number: C2907071; Resistance: 820R; Tolerance: 1%; Power: 100mW
footprint RES SMD 0603
pins: 1, 2

## RES 0603 820R 1%_1
designator C?, comment 820R
820R 1% 100mW 0603 Thick Film Resistor AEC-Q200; Manufacturer: FOJAN; Manufacturer Part Number: FRQ0603F8200TS; Voltage Rating: 75V; Supplier: LCSC; Supplier Part Number: C5204057; Resistance: 820R; Tolerance: 1%; Power: 100mW
footprint RES SMD 0603
pins: 1, 2

## RES 0603 820R 5%
designator C?, comment 820R
820R 5% 100mW 0603 Thick Film Resistor; Manufacturer: FOJAN; Manufacturer Part Number: FRC0603J821 TS; Voltage Rating: 75V; Supplier: LCSC; Supplier Part Number: C2907207; Resistance: 820R; Tolerance: 5%; Power: 100mW
footprint RES SMD 0603
pins: 1, 2

## RES 0603 825R 1%
designator C?, comment 825R
825R 1% 100mW 0603 Thick Film Resistor; Manufacturer: FOJAN; Manufacturer Part Number: FRC0603F8250TS; Voltage Rating: 75V; Supplier: LCSC; Supplier Part Number: C5713294; Resistance: 825R; Tolerance: 1%; Power: 100mW
footprint RES SMD 0603
pins: 1, 2

## RES 0603 845k 1%
designator C?, comment 845k
845kR 1% 100mW 0603 Thick Film Resistor; Manufacturer: FOJAN; Manufacturer Part Number: FRC0603F8453TS; Voltage Rating: 75V; Supplier: LCSC; Supplier Part Number: C2930132; Resistance: 845k; Tolerance: 1%; Power: 100mW
footprint RES SMD 0603
pins: 1, 2

## RES 0603 845R 1%
designator C?, comment 845R
845R 1% 100mW 0603 Thick Film Resistor; Manufacturer: FOJAN; Manufacturer Part Number: FRC0603F8450TS; Voltage Rating: 75V; Supplier: LCSC; Supplier Part Number: C2933262; Resistance: 845R; Tolerance: 1%; Power: 100mW
footprint RES SMD 0603
pins: 1, 2

## RES 0603 866k 1%
designator C?, comment 866k
866kR 1% 100mW 0603 Thick Film Resistor; Manufacturer: FOJAN; Manufacturer Part Number: FRC0603F8663TS; Voltage Rating: 75V; Supplier: LCSC; Supplier Part Number: C5126056; Resistance: 866k; Tolerance: 1%; Power: 100mW
footprint RES SMD 0603
pins: 1, 2

## RES 0603 866R 1%
designator C?, comment 866R
866R 1% 100mW 0603 Thick Film Resistor; Manufacturer: FOJAN; Manufacturer Part Number: FRC0603F8660TS; Voltage Rating: 75V; Supplier: LCSC; Supplier Part Number: C2930133; Resistance: 866R; Tolerance: 1%; Power: 100mW
footprint RES SMD 0603
pins: 1, 2

## RES 0603 887k 0.25%
designator C?, comment 887k
887kR 100mW Thick Film Resistor 100ppm/â„ƒ 0.25% 0603 Chip Resistor - Surface Mount RoHS; Manufacturer: FOJAN; Manufacturer Part Number: FRH0603D8873TS; Supplier: LCSC; Supplier Part Number: C42372208; Resistance: 887k; Tolerance: 0.25%; Power: 100mW
footprint RES SMD 0603
pins: 1, 2

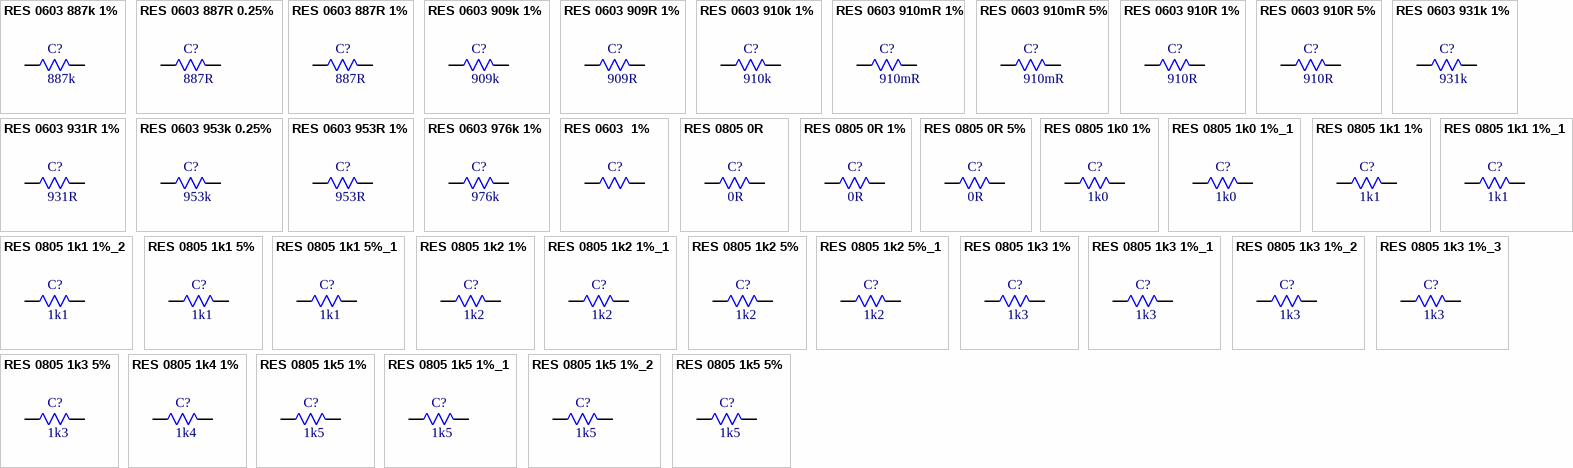
[diagram p35: symbols RES 0603 887k 1% to RES 0805 1k5 5%]

## RES 0603 887k 1%
designator C?, comment 887k
887kR 1% 100mW 0603 Thick Film Resistor; Manufacturer: FOJAN; Manufacturer Part Number: FRC0603F8873TS; Voltage Rating: 75V; Supplier: LCSC; Supplier Part Number: C5126163; Resistance: 887k; Tolerance: 1%; Power: 100mW
footprint RES SMD 0603
pins: 1, 2

## RES 0603 887R 0.25%
designator C?, comment 887R
887R 100mW Thick Film Resistor 100ppm/â„ƒ 0.25% 0603 Chip Resistor - Surface Mount RoHS; Manufacturer: FOJAN; Manufacturer Part Number: FRH0603D8870TS; Supplier: LCSC; Supplier Part Number: C42372207; Resistance: 887R; Tolerance: 0.25%; Power: 100mW
footprint RES SMD 0603
pins: 1, 2

## RES 0603 887R 1%
designator C?, comment 887R
887R 1% 100mW 0603 Thick Film Resistor; Manufacturer: FOJAN; Manufacturer Part Number: FRC0603F8870TS; Voltage Rating: 75V; Supplier: LCSC; Supplier Part Number: C2933264; Resistance: 887R; Tolerance: 1%; Power: 100mW
footprint RES SMD 0603
pins: 1, 2

## RES 0603 909k 1%
designator C?, comment 909k
909kR 100mW 75V Thick Film Resistor 100ppm/â„ƒ 1% 0603 Chip Resistor - Surface Mount RoHS; Manufacturer: FOJAN; Manufacturer Part Number: FRC0603F9093TS; Supplier: LCSC; Supplier Part Number: C48533703; Resistance: 909k; Tolerance: 1%; Voltage Rating: 75V; Power: 100mW
footprint RES SMD 0603
pins: 1, 2

## RES 0603 909R 1%
designator C?, comment 909R
909R 1% 100mW 0603 Thick Film Resistor; Manufacturer: FOJAN; Manufacturer Part Number: FRC0603F9090TS; Voltage Rating: 75V; Supplier: LCSC; Supplier Part Number: C2933265; Resistance: 909R; Tolerance: 1%; Power: 100mW
footprint RES SMD 0603
pins: 1, 2

## RES 0603 910k 1%
designator C?, comment 910k
910kR 1% 100mW 0603 Thick Film Resistor; Manufacturer: FOJAN; Manufacturer Part Number: FRC0603F9103TS; Voltage Rating: 75V; Supplier: LCSC; Supplier Part Number: C2907075; Resistance: 910k; Tolerance: 1%; Power: 100mW
footprint RES SMD 0603
pins: 1, 2

## RES 0603 910mR 1%
designator C?, comment 910mR
910mR 100mW Thick Film Resistor 200ppm/â„ƒ 1% 0603 Chip Resistor - Surface Mount RoHS; Manufacturer: FOJAN; Manufacturer Part Number: FRL0603FR910TS; Supplier: LCSC; Supplier Part Number: C7467365; Resistance: 910mR; Tolerance: 1%; Power: 100mW
footprint RES SMD 0603
pins: 1, 2

## RES 0603 910mR 5%
designator C?, comment 910mR
910mR 5% 100mW 0603 Thick Film Resistor; Manufacturer: FOJAN; Manufacturer Part Number: FRL0603JR910TS; Voltage Rating: 100V; Supplier: LCSC; Supplier Part Number: C5126057; Resistance: 910mR; Tolerance: 5%; Power: 100mW
footprint RES SMD 0603
pins: 1, 2

## RES 0603 910R 1%
designator C?, comment 910R
910R 1% 100mW 0603 Thick Film Resistor; Manufacturer: FOJAN; Manufacturer Part Number: FRC0603F9100TS; Voltage Rating: 75V; Supplier: LCSC; Supplier Part Number: C2907076; Resistance: 910R; Tolerance: 1%; Power: 100mW
footprint RES SMD 0603
pins: 1, 2

## RES 0603 910R 5%
designator C?, comment 910R
910R 5% 100mW 0603 Thick Film Resistor AEC-Q200; Manufacturer: FOJAN; Manufacturer Part Number: FRQ0603J911 TS; Voltage Rating: 75V; Supplier: LCSC; Supplier Part Number: C2960882; Resistance: 910R; Tolerance: 5%; Power: 100mW
footprint RES SMD 0603
pins: 1, 2

## RES 0603 931k 1%
designator C?, comment 931k
931kR 1% 100mW 0603 Thick Film Resistor; Manufacturer: FOJAN; Manufacturer Part Number: FRC0603F9313TS; Voltage Rating: 75V; Supplier: LCSC; Supplier Part Number: C2933267; Resistance: 931k; Tolerance: 1%; Power: 100mW
footprint RES SMD 0603
pins: 1, 2

## RES 0603 931R 1%
designator C?, comment 931R
931R 1% 100mW 0603 Thick Film Resistor; Manufacturer: FOJAN; Manufacturer Part Number: FRC0603F9310TS; Voltage Rating: 75V; Supplier: LCSC; Supplier Part Number: C5126075; Resistance: 931R; Tolerance: 1%; Power: 100mW
footprint RES SMD 0603
pins: 1, 2

## RES 0603 953k 0.25%
designator C?, comment 953k
953kR 100mW Thick Film Resistor 100ppm/â„ƒ 0.25% 0603 Chip Resistor - Surface Mount RoHS; Manufacturer: FOJAN; Manufacturer Part Number: FRH0603D9533TS; Supplier: LCSC; Supplier Part Number: C42372209; Resistance: 953k; Tolerance: 0.25%; Power: 100mW
footprint RES SMD 0603
pins: 1, 2

## RES 0603 953R 1%
designator C?, comment 953R
953R 1% 100mW 0603 Thick Film Resistor; Manufacturer: FOJAN; Manufacturer Part Number: FRC0603F9530TS; Voltage Rating: 75V; Supplier: LCSC; Supplier Part Number: C2933268; Resistance: 953R; Tolerance: 1%; Power: 100mW
footprint RES SMD 0603
pins: 1, 2

## RES 0603 976k 1%
designator C?, comment 976k
976kR 1% 100mW 0603 Thick Film Resistor; Manufacturer: FOJAN; Manufacturer Part Number: FRC0603F9763TS; Voltage Rating: 75V; Supplier: LCSC; Supplier Part Number: C2933270; Resistance: 976k; Tolerance: 1%; Power: 100mW
footprint RES SMD 0603
pins: 1, 2

## RES 0603  1%
designator C?
100mW 75V Thick Film Resistor 1% 0603 Chip Resistor - Surface Mount RoHS; Manufacturer: FOJAN; Manufacturer Part Number: FRR0603P000 TS; Supplier: LCSC; Supplier Part Number: C51048218; Tolerance: 1%; Voltage Rating: 75V; Power: 100mW
footprint RES SMD 0603
pins: 1, 2

## RES 0805 0R
designator C?, comment 0R
0R 125mW 150V Thick Film Resistor 0805 Chip Resistor - Surface Mount RoHS; Manufacturer: FOJAN; Manufacturer Part Number: FRR0805P000 TS; Supplier: LCSC; Supplier Part Number: C49196824; Resistance: 0R; Voltage Rating: 150V; Power: 125mW
footprint RES SMD 0805
pins: 1, 2

## RES 0805 0R 1%
designator C?, comment 0R
125mW 0R 150V Thick Film Resistor 1% 0805 Chip Resistor - Surface Mount RoHS; Manufacturer: FOJAN; Manufacturer Part Number: FRC0805F0000TS; Supplier: LCSC; Supplier Part Number: C2907215; Resistance: 0R; Tolerance: 1%; Voltage Rating: 150V; Power: 125mW
footprint RES SMD 0805
pins: 1, 2

## RES 0805 0R 5%
designator C?, comment 0R
125mW 0R 150V Thick Film Resistor 5% 0805 Chip Resistor - Surface Mount RoHS; Manufacturer: FOJAN; Manufacturer Part Number: FRC0805P000 TS; Supplier: LCSC; Supplier Part Number: C2907288; Resistance: 0R; Tolerance: 5%; Voltage Rating: 150V; Power: 125mW
footprint RES SMD 0805
pins: 1, 2

## RES 0805 1k0 1%
designator C?, comment 1k0
1.02kR 1% 125mW 0805 Thick Film Resistor; Manufacturer: FOJAN; Manufacturer Part Number: FRC0805F1021TS; Voltage Rating: 150V; Supplier: LCSC; Supplier Part Number: C2999458; Resistance: 1k0; Tolerance: 1%; Power: 125mW
footprint RES SMD 0805
pins: 1, 2

## RES 0805 1k0 1%_1
designator C?, comment 1k0
1.07kR 1% 125mW 0805 Thick Film Resistor; Manufacturer: FOJAN; Manufacturer Part Number: FRC0805F1071TS; Voltage Rating: 150V; Supplier: LCSC; Supplier Part Number: C5713296; Resistance: 1k0; Tolerance: 1%; Power: 125mW
footprint RES SMD 0805
pins: 1, 2

## RES 0805 1k1 1%
designator C?, comment 1k1
1.1kR 1% 125mW 0805 Thick Film Resistor; Manufacturer: FOJAN; Manufacturer Part Number: FRC0805F1101TS; Voltage Rating: 150V; Supplier: LCSC; Supplier Part Number: C2933286; Resistance: 1k1; Tolerance: 1%; Power: 125mW
footprint RES SMD 0805
pins: 1, 2

## RES 0805 1k1 1%_1
designator C?, comment 1k1
1.15kR 1% 125mW 0805 Thick Film Resistor; Manufacturer: FOJAN; Manufacturer Part Number: FRC0805F1151TS; Voltage Rating: 150V; Supplier: LCSC; Supplier Part Number: C2930160; Resistance: 1k1; Tolerance: 1%; Power: 125mW
footprint RES SMD 0805
pins: 1, 2

## RES 0805 1k1 1%_2
designator C?, comment 1k1
1.18kR 1% 125mW 0805 Thick Film Resistor; Manufacturer: FOJAN; Manufacturer Part Number: FRC0805F1181TS; Voltage Rating: 150V; Supplier: LCSC; Supplier Part Number: C42372157; Resistance: 1k1; Tolerance: 1%; Power: 125mW
footprint RES SMD 0805
pins: 1, 2

## RES 0805 1k1 5%
designator C?, comment 1k1
125mW 1.1kR 150V Thick Film Resistor 100ppm/â„ƒ 5% 0805 Chip Resistor - Surface Mount RoHS; Manufacturer: FOJAN; Manufacturer Part Number: FRR0805J112 TS; Supplier: LCSC; Supplier Part Number: C49196828; Resistance: 1k1; Tolerance: 5%; Voltage Rating: 150V; Power: 125mW
footprint RES SMD 0805
pins: 1, 2

## RES 0805 1k1 5%_1
designator C?, comment 1k1
1.1kR 5% 125mW 0805 Thick Film Resistor; Manufacturer: FOJAN; Manufacturer Part Number: FRC0805J112 TS; Voltage Rating: 150V; Supplier: LCSC; Supplier Part Number: C2907289; Resistance: 1k1; Tolerance: 5%; Power: 125mW
footprint RES SMD 0805
pins: 1, 2

## RES 0805 1k2 1%
designator C?, comment 1k2
1.2kR 1% 125mW 0805 Thick Film Resistor; Manufacturer: FOJAN; Manufacturer Part Number: FRC0805F1201TS; Voltage Rating: 150V; Supplier: LCSC; Supplier Part Number: C2933293; Resistance: 1k2; Tolerance: 1%; Power: 125mW
footprint RES SMD 0805
pins: 1, 2

## RES 0805 1k2 1%_1
designator C?, comment 1k2
1.27kR 1% 125mW 0805 Thick Film Resistor; Manufacturer: FOJAN; Manufacturer Part Number: FRC0805F1271TS; Voltage Rating: 150V; Supplier: LCSC; Supplier Part Number: C2933299; Resistance: 1k2; Tolerance: 1%; Power: 125mW
footprint RES SMD 0805
pins: 1, 2

## RES 0805 1k2 5%
designator C?, comment 1k2
1.2kR 5% 125mW 0805 Thick Film Resistor; Manufacturer: FOJAN; Manufacturer Part Number: FRD0805J122 TS; Voltage Rating: 150V; Supplier: LCSC; Supplier Part Number: C2934143; Resistance: 1k2; Tolerance: 5%; Power: 125mW
footprint RES SMD 0805
pins: 1, 2

## RES 0805 1k2 5%_1
designator C?, comment 1k2
1.2kR 5% 125mW 0805 Thick Film Resistor; Manufacturer: FOJAN; Manufacturer Part Number: FRC0805J122 TS; Voltage Rating: 150V; Supplier: LCSC; Supplier Part Number: C2933520; Resistance: 1k2; Tolerance: 5%; Power: 125mW
footprint RES SMD 0805
pins: 1, 2

## RES 0805 1k3 1%
designator C?, comment 1k3
1.3kR 1% 125mW 0805 Thick Film Resistor; Manufacturer: FOJAN; Manufacturer Part Number: FRC0805F1301TS; Voltage Rating: 150V; Supplier: LCSC; Supplier Part Number: C2933303; Resistance: 1k3; Tolerance: 1%; Power: 125mW
footprint RES SMD 0805
pins: 1, 2

## RES 0805 1k3 1%_1
designator C?, comment 1k3
1.37kR 1% 125mW 0805 Thick Film Resistor; Manufacturer: FOJAN; Manufacturer Part Number: FRC0805F1371TS; Voltage Rating: 150V; Supplier: LCSC; Supplier Part Number: C2960707; Resistance: 1k3; Tolerance: 1%; Power: 125mW
footprint RES SMD 0805
pins: 1, 2

## RES 0805 1k3 1%_2
designator C?, comment 1k3
125mW 1.3kR 150V Thick Film Resistor 1% 100ppm/â„ƒ 0805 Chip Resistor - Surface Mount RoHS; Manufacturer: FOJAN; Manufacturer Part Number: FRQ0805F1301TS; Supplier: LCSC; Supplier Part Number: C7468626; Resistance: 1k3; Tolerance: 1%; Voltage Rating: 150V; Power: 125mW
footprint RES SMD 0805
pins: 1, 2

## RES 0805 1k3 1%_3
designator C?, comment 1k3
1.33kR 1% 125mW 0805 Thick Film Resistor; Manufacturer: FOJAN; Manufacturer Part Number: FRC0805F1331TS; Voltage Rating: 150V; Supplier: LCSC; Supplier Part Number: C2933306; Resistance: 1k3; Tolerance: 1%; Power: 125mW
footprint RES SMD 0805
pins: 1, 2

## RES 0805 1k3 5%
designator C?, comment 1k3
1.3kR 5% 125mW 0805 Thick Film Resistor; Manufacturer: FOJAN; Manufacturer Part Number: FRC0805J132 TS; Voltage Rating: 150V; Supplier: LCSC; Supplier Part Number: C2933524; Resistance: 1k3; Tolerance: 5%; Power: 125mW
footprint RES SMD 0805
pins: 1, 2

## RES 0805 1k4 1%
designator C?, comment 1k4
1.4kR 1% 125mW 0805 Thick Film Resistor; Manufacturer: FOJAN; Manufacturer Part Number: FRC0805F1401TS; Voltage Rating: 150V; Supplier: LCSC; Supplier Part Number: C2930161; Resistance: 1k4; Tolerance: 1%; Power: 125mW
footprint RES SMD 0805
pins: 1, 2